# Altium footprint library SOD-323FL.PcbLib: 1 footprints
Each footprint in its own frame and in the unit in brackets; x right, y up, seen from the top. Pads: shape width x height; smd on the part's side, far side on the other; paste and mask are expansions set on the pad; w line width, h text height; cw(c..) or ccw(c..) is an arc to the next point about the centre after c.
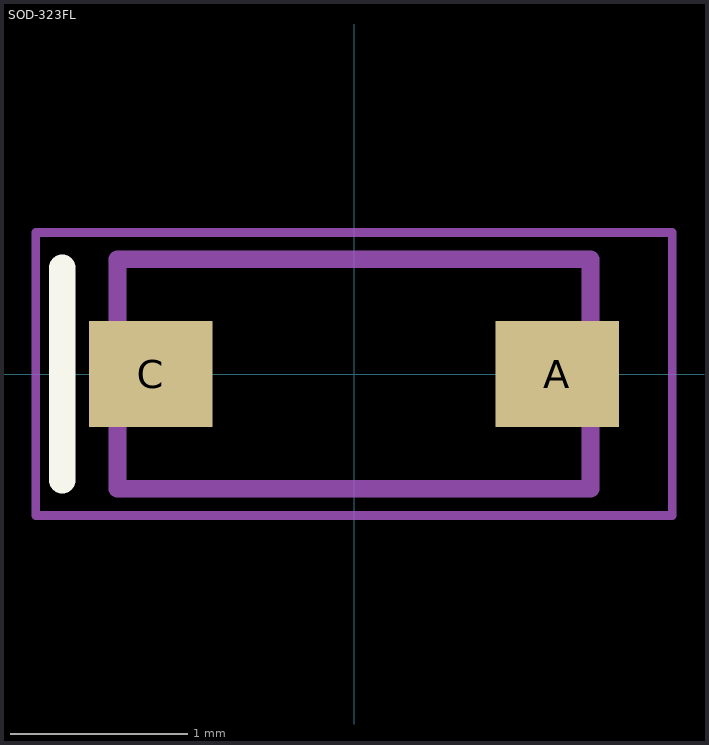
[diagram p0: the footprint, top view; thin cyan lines are the x and y axes]

## SOD-323FL [mm]
pads (2):
  rect 0.7x0.6 smd: A(1.15,0) C(-1.15,0)
Top Overlay:
  lines w0.15: -1.651,-0.6 -1.651,0.6
Top Assembly:
  lines w0.1: -1.338,-0.65 -1.338,0.65 1.338,0.65 1.338,-0.65 -1.338,-0.65
Top Courtyard:
  lines w0.05: -1.8,-0.8 -1.8,0.8 1.8,0.8 1.8,-0.8 -1.8,-0.8
Top Designator:
  text ".Designator" at -2.999,-0.2 h0.6
3D body "1N4148WS.STEP": height 1.15, standoff 0, extent -1.338,-0.65 1.338,0.65